# Altium footprint library Button.PcbLib: 20 footprints (part 2 of 2)
Each footprint in its own frame and in the unit in brackets; x right, y up, seen from the top. Pads: shape width x height; smd on the part's side, far side on the other; paste and mask are expansions set on the pad; w line width, h text height; cw(c..) or ccw(c..) is an arc to the next point about the centre after c.
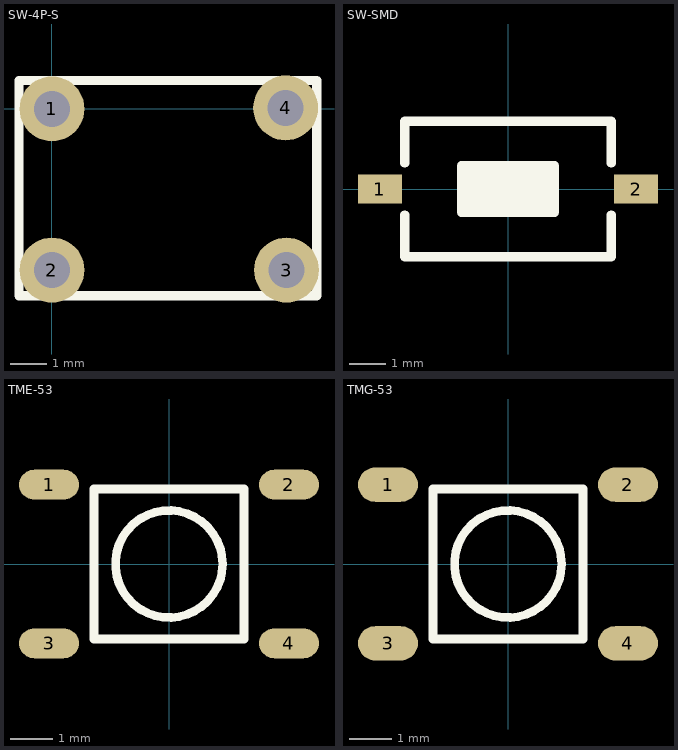
[diagram p1: the footprints below, top view; thin cyan lines are the x and y axes]

## SW-4P-S [mm]
height 5.59
pads (4):
  round 1.8 hole 1: 1(0,0) 2(0,-4.47) 3(6.502,-4.47) 4(6.477,0.025)
Top Overlay:
  lines w0.254: -0.914,-5.182 7.341,-5.182 7.341,0.787 6.934,0.787 -0.914,0.787 -0.914,-5.182
3D body "User Library-Button-small-4pin.step": height 9.52, standoff -3.48, extent -0.864,-5.235 7.348,0.765

## SW-SMD [mm] "Switch SMD type"
pads (2):
  rect 1.2x0.8 smd: 1(-3.5,0) 2(3.5,0)
Top Overlay:
  rectangle: -1.27,-0.635 1.27,0.635
  lines w0.254: -2.819,-0.711 -2.819,-1.854 2.819,-1.854 2.819,-0.711 ; -2.819,0.711 -2.819,1.854 2.819,1.854 2.819,0.711 ; -1.27,-0.635 1.27,-0.635 1.27,0.635 -1.27,0.635 -1.27,-0.635
3D body "User Library-Button-SMD.step": height 2.5, standoff 0, extent -3.05,-1.85 3.05,1.85

## TME-53 [mm]
pads (4):
  oval 1.4x0.7 smd mask+0.1: 1(-2.8,1.85) 2(2.8,1.85) 3(-2.8,-1.85) 4(2.8,-1.85)
Top Overlay:
  circle w0.2: c0,0 r1.25
  lines w0.2: -1.75,-1.75 -1.75,1.75 1.75,1.75 1.75,-1.75 -1.75,-1.75
3D body "43435.stp": height 1.51, standoff 0.01, extent -3.2,-2.6 3.2,2.6

## TMG-53 [mm]
pads (4):
  oval 1.4x0.8 smd mask+0.1: 1(-2.8,1.85) 2(2.8,1.85) 3(-2.8,-1.85) 4(2.8,-1.85)
Top Overlay:
  circle w0.2: c0,0 r1.25
  lines w0.2: -1.75,-1.75 -1.75,1.75 1.75,1.75 1.75,-1.75 -1.75,-1.75
3D body "TMG53.STEP": height 1.52, standoff 0.02, extent -3.15,-2.6 3.15,2.6